# Altium footprint library Bus.PcbLib: 7 footprints
Each footprint in its own frame and in the unit in brackets; x right, y up, seen from the top. Pads: shape width x height; smd on the part's side, far side on the other; paste and mask are expansions set on the pad; w line width, h text height; cw(c..) or ccw(c..) is an arc to the next point about the centre after c.
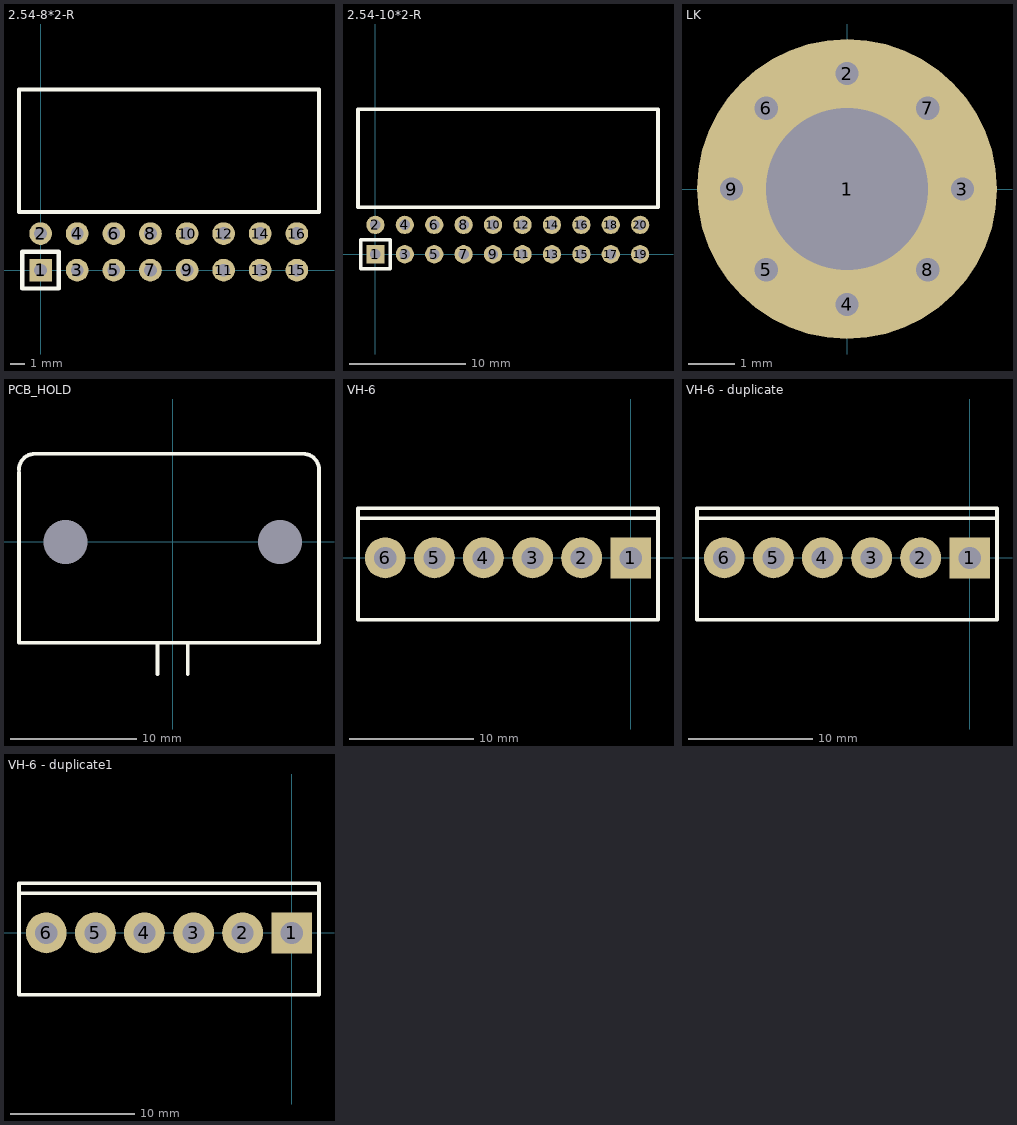
[diagram p0: the footprints below, top view; thin cyan lines are the x and y axes]

## 2.54-8*2-R [mil]
height 196.85
pads (16):
  rect 62x62 hole 35: 1(0,0)
  round 62 hole 35: 2(0,100) 3(100,0) 4(100,100) 5(200,0) 6(200,100) 7(300,0) 8(300,100) 9(400,0) 10(400,100) 11(500,0) 12(500,100) 13(600,0) 14(600,100) 15(700,0) 16(700,100)
Top Overlay:
  lines w12: -59.06,159.06 760.63,159.06 ; -59.06,493.7 760.63,493.7 ; -50,-50 -50,50 50,50 50,-50 -50,-50
  lines w12.01: -59.06,159.06 -59.06,493.7 ; 760.63,159.06 760.63,493.7

## 2.54-10*2-R [mil]
height 196.85
pads (20):
  rect 62x62 hole 35: 1(0,0)
  round 62 hole 35: 2(0,100) 3(100,0) 4(100,100) 5(200,0) 6(200,100) 7(300,0) 8(300,100) 9(400,0) 10(400,100) 11(500,0) 12(500,100) 13(600,0) 14(600,100) 15(700,0) 16(700,100) 17(800,0) 18(800,100) 19(900,0) 20(900,100)
Top Overlay:
  lines w12: -59.06,159.06 960.63,159.06 ; -59.06,493.7 960.63,493.7 ; -50,-50 -50,50 50,50 50,-50 -50,-50
  lines w12.01: -59.06,159.06 -59.06,493.7 ; 960.63,159.06 960.63,493.7

## LK [mm]
height 13
pads (9):
  round 6.5 hole 3.5: 1(0,0)
  round 1 hole 0.5: 2(0,2.5) 3(2.5,0) 4(0,-2.5) 5(-1.75,-1.75) 6(-1.75,1.75) 7(1.75,1.75) 8(1.75,-1.75) 9(-2.5,0)

## PCB_HOLD [mm]
height 80
pads (2):
  round 0 hole 3.5 unplated: 1(8.5,0) 2(-8.5,0)
Top Overlay:
  lines w0.305: -12.192,5.5 -12.192,-8.001 11.608,-8.001 11.608,5.729 ccw(c10.338,5.729) 10.338,6.999 -10.922,6.999 ccw(c-10.922,5.729) -12.192,5.729 ; -1.2,-10.5 -1.2,-8 ; 1.2,-10.5 1.2,-8

## VH-6 [mil]
height 574.8
pads (6):
  rect 130x130 hole 70: 1(0,0)
  round 130 hole 70: 2(-156,0) 3(-312,0) 4(-468,0) 5(-624,0) 6(-780,0)
Top Overlay:
  lines w12: -866.14,125.98 86.61,125.98 ; -866.61,-196.85 86.61,-196.85 86.61,157.48 -866.61,157.48 -866.61,-196.85

## VH-6 - duplicate [mil]
height 574.8
pads (6):
  rect 130x130 hole 70: 1(0,0)
  round 130 hole 70: 2(-156,0) 3(-312,0) 4(-468,0) 5(-624,0) 6(-780,0)
Top Overlay:
  lines w12: -866.14,125.98 86.61,125.98 ; -866.61,-196.85 -866.61,157.48 86.61,157.48 86.61,-196.85 -866.61,-196.85

## VH-6 - duplicate1 [mil]
height 574.8
pads (6):
  rect 130x130 hole 70: 1(0,0)
  round 130 hole 70: 2(-156,0) 3(-312,0) 4(-468,0) 5(-624,0) 6(-780,0)
Top Overlay:
  lines w12: -866.14,125.98 86.61,125.98 ; -866.61,-196.85 -866.61,157.48 86.61,157.48 86.61,-196.85 -866.61,-196.85